# Altium footprint library SOL-14.PcbLib: 1 footprints
Each footprint in its own frame and in the unit in brackets; x right, y up, seen from the top. Pads: shape width x height; smd on the part's side, far side on the other; paste and mask are expansions set on the pad; w line width, h text height; cw(c..) or ccw(c..) is an arc to the next point about the centre after c.
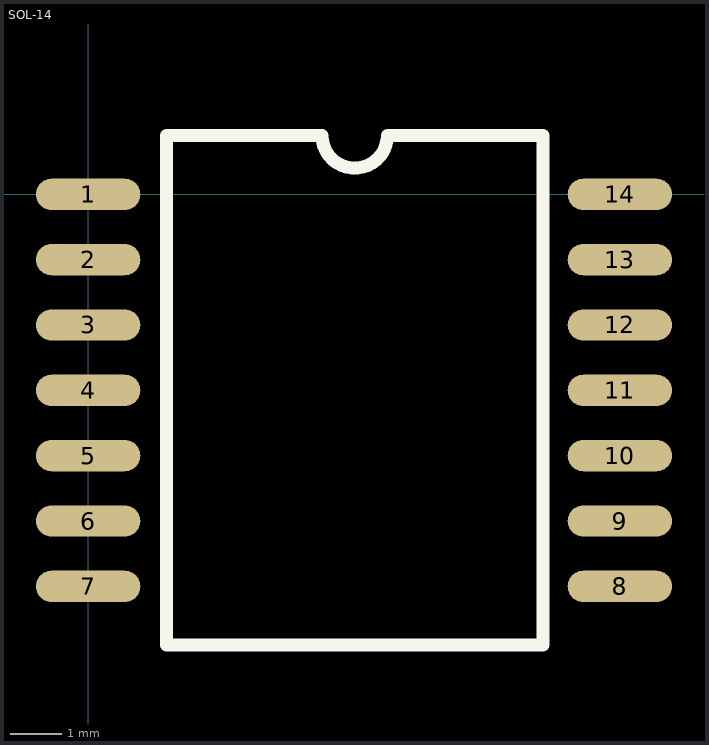
[diagram p0: the footprint, top view; thin cyan lines are the x and y axes]

## SOL-14 [mil]
pads (14):
  oval 80x24 smd: 1(0,0) 2(0,-50) 3(0,-100) 4(0,-150) 5(0,-200) 6(0,-250) 7(0,-300) 8(407,-300) 9(407,-250) 10(407,-200) 11(407,-150) 12(407,-100) 13(407,-50) 14(407,0)
TopOverlay:
  lines w10: 178,45 60,45 60,-345 348,-345 348,45 229,45 cw(c204,45) 179,45
Mechanical4:
  text ".215" at 0,0 h1